# EAGLE library part 74AXP4T245 (library pepin)
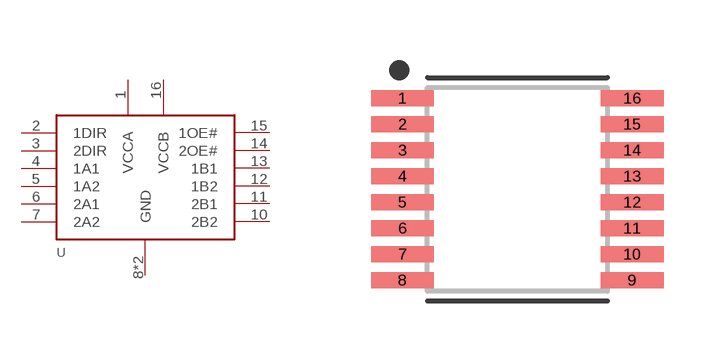
[diagram p20: symbol with the pads of SOP65P640X110-16N; footprint SOP65P640X110-16N]

Designator prefix U

## 74AXP4T245TSSOP16  [SOP65P640X110-16N]
1  VCCA  pwr
2  1DIR
3  2DIR
4  1A1
5  1A2
6  2A1
7  2A2
8  GND  pwr
9  GND  pwr
10  2B2
11  2B1
12  1B2
13  1B1
14  2OE#
15  1OE#
16  VCCB  pwr

## Footprint SOP65P640X110-16N (pad centres in mm)
16-SOP, 0.65 mm pitch, 6.40 mm span, 5.00 X 4.40 X 1.10 mm body 16-pin SOP package with 0.65 mm pitch, 6.40 mm span with body size 5.00 X 4.40 X 1.10 mm
smd 1.572 x 0.407: 1 -2.872,2.275; 2 -2.872,1.625; 3 -2.872,0.975; 4 -2.872,0.325; 5 -2.872,-0.325; 6 -2.872,-0.975; 7 -2.872,-1.625; 8 -2.872,-2.275; 9 2.872,-2.275; 10 2.872,-1.625; 11 2.872,-0.975; 12 2.872,-0.325; 13 2.872,0.325; 14 2.872,0.975; 15 2.872,1.625; 16 2.872,2.275